# EAGLE library part DELAY-DS1013-XX (library 1A-meinLib)
3-in-1 Silicon Delay Line, 10..200ns, DALLAS Semiconductor, Schuricht 641048
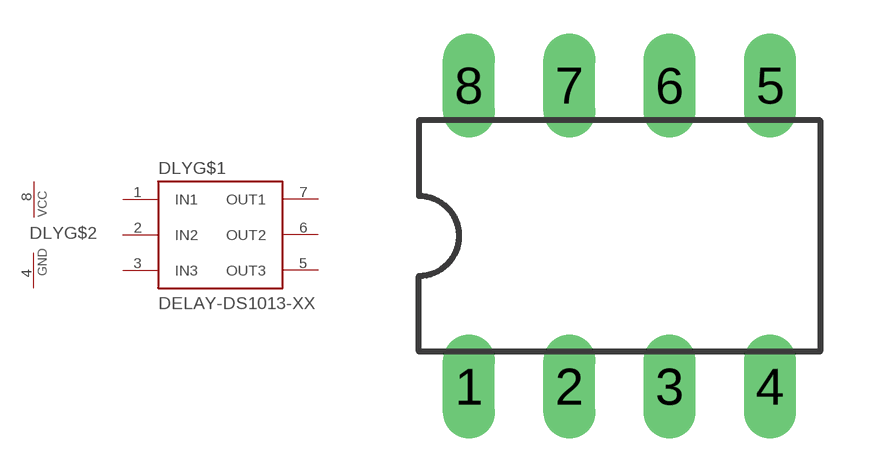
[diagram p92: symbol with the pads of DIL08; footprint DIL08]

Designator prefix DLY; gates G$1=DELAY-DS1013-XX G$2=PWRN

## DELAY-DS1013-XX  [DIL08]
1  G$1:IN1  in
2  G$1:IN2  in
3  G$1:IN3  in
4  G$2:GND  pwr
5  G$1:OUT3  out
6  G$1:OUT2  out
7  G$1:OUT1  out
8  G$2:VCC  pwr

## Footprint DIL08 (pad centres in mm)
Dual In Line Package
drill 0.813 long: 1 -3.81,-3.81; 2 -1.27,-3.81; 3 1.27,-3.81; 4 3.81,-3.81; 5 3.81,3.81; 6 1.27,3.81; 7 -1.27,3.81; 8 -3.81,3.81